# Altium footprint library Eurocard VME 3U (3.937 x 6.299 inches).PcbLib: 27 footprints (part 1 of 2)
Each footprint in its own frame and in the unit in brackets; x right, y up, seen from the top. Pads: shape width x height; smd on the part's side, far side on the other; paste and mask are expansions set on the pad; w line width, h text height; cw(c..) or ccw(c..) is an arc to the next point about the centre after c.
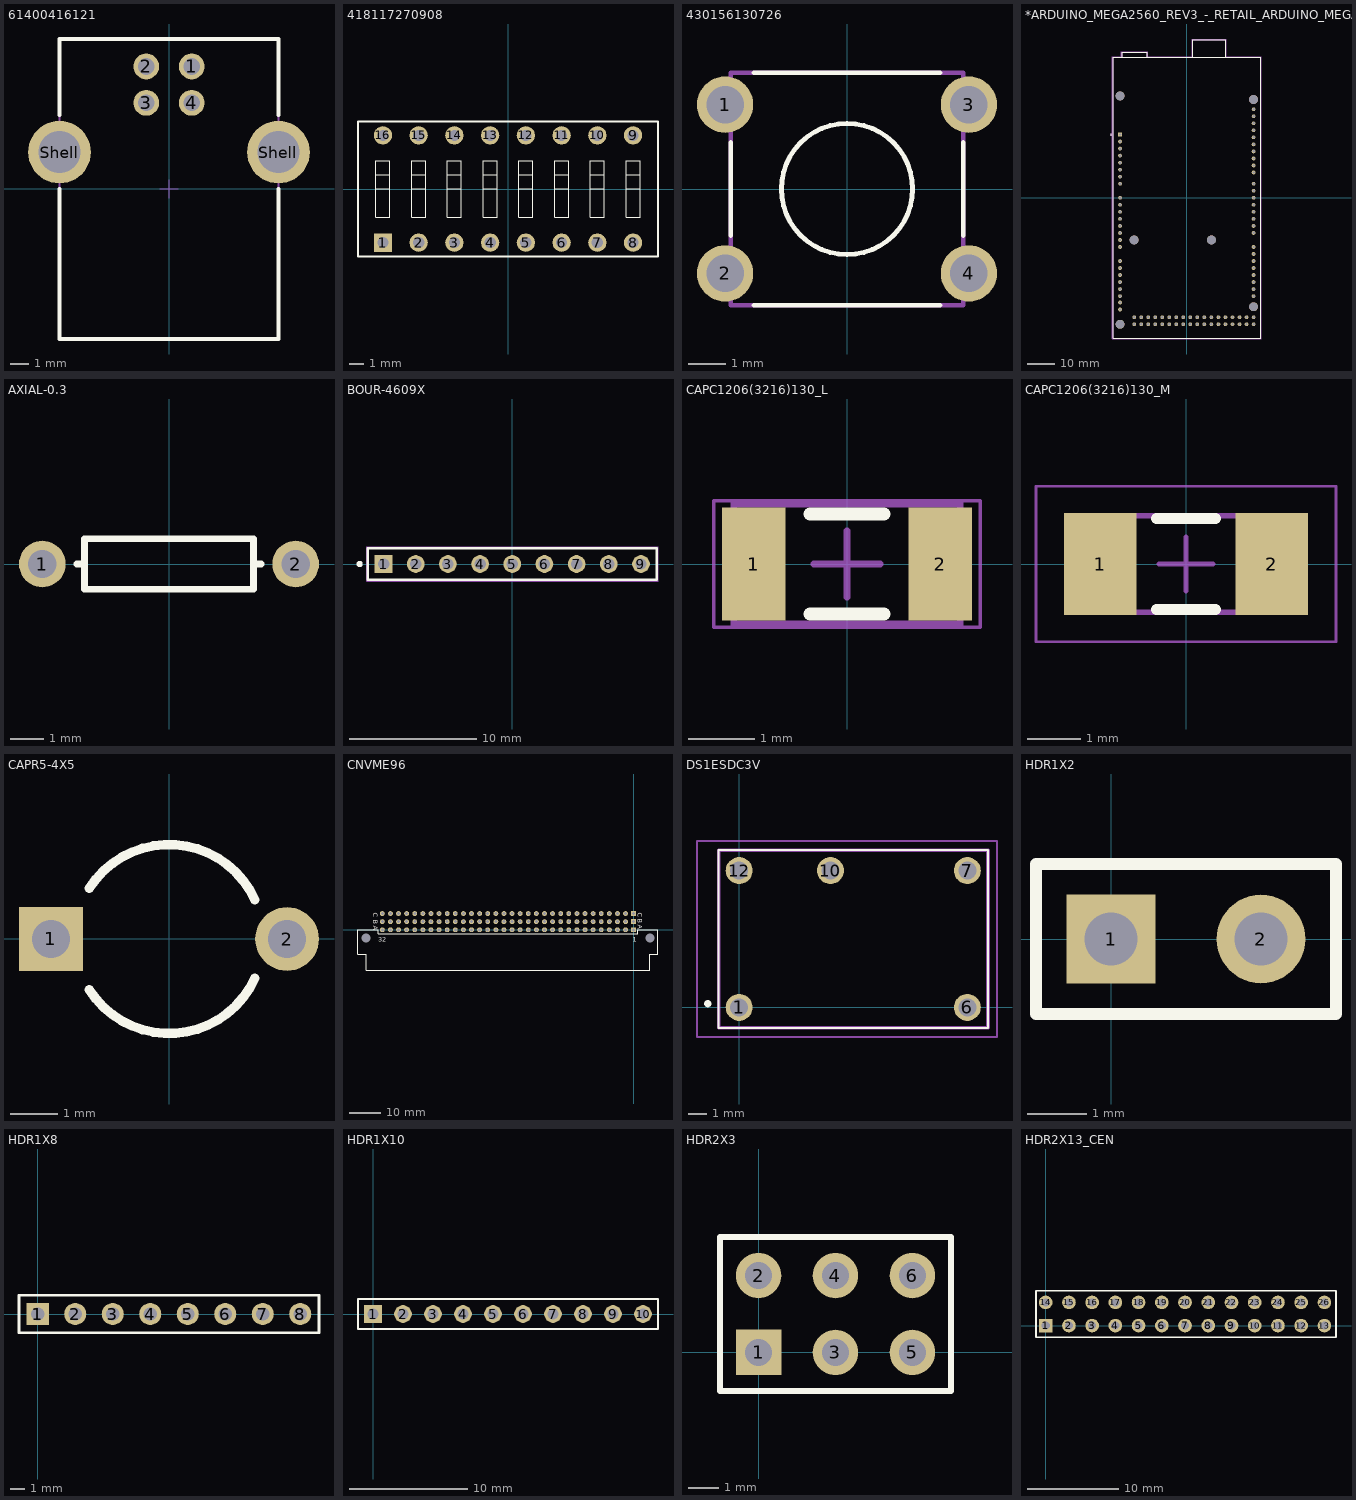
[diagram p0: the footprints below, top view; thin cyan lines are the x and y axes]

## 61400416121 [mm]
pads (6):
  round 1.42 hole 0.92: 1(1.25,6.74) 2(-1.25,6.74) 3(-1.25,4.74) 4(1.25,4.74)
  round 3.45 hole 2.3: Shell(-6.02,2.03) Shell(6.02,2.03)
Top Overlay:
  lines w0.2: -6.02,0 -6.02,-8.25 6.02,-8.25 6.02,0 ; -6.02,4.06 -6.02,8.25 6.02,8.25 6.02,4.06
Mechanical 13:
  lines w0.1: -6.02,-8.25 6.02,-8.25 6.02,8.25 -6.02,8.25 -6.02,-8.25
Mechanical 15:
  lines w0.05: -0.5,0 0.5,0 ; 0,-0.5 0,0.5
3D body "61400416121.stp": height 11.08, standoff -3.78, extent -7.484,-8.25 7.484,8.25

## 418117270908 [mm]
pads (16):
  rect 1.3x1.3 hole 0.8: 1(-8.89,-3.81)
  round 1.3 hole 0.8: 2(-6.35,-3.81) 3(-3.81,-3.81) 4(-1.27,-3.81) 5(1.27,-3.81) 6(3.81,-3.81) 7(6.35,-3.81) 8(8.89,-3.81) 9(8.89,3.81) 10(6.35,3.81) 11(3.81,3.81) 12(1.27,3.81) 13(-1.27,3.81) 14(-3.81,3.81) 15(-6.35,3.81) 16(-8.89,3.81)
Top Overlay:
  lines w0.025: -9.39,0 -8.39,0 ; -9.39,1 -8.39,1 ; -6.85,0 -5.85,0 ; -6.85,1 -5.85,1 ; -4.31,0 -3.31,0 ; -4.31,1 -3.31,1 ; -1.77,0 -0.77,0 ; -1.77,1 -0.77,1 ; 0.77,0 1.77,0 ; 0.77,1 1.77,1 ; 3.31,0 4.31,0 ; 3.31,1 4.31,1 ; 5.85,0 6.85,0 ; 5.85,1 6.85,1 ; 8.39,0 9.39,0 ; 8.39,1 9.39,1 ; -9.39,-2 -9.39,2 -8.39,2 -8.39,-2 -9.39,-2 ; -6.85,-2 -6.85,2 -5.85,2 -5.85,-2 -6.85,-2 ; -4.31,-2 -4.31,2 -3.31,2 -3.31,-2 -4.31,-2 ; -1.77,-2 -1.77,2 -0.77,2 -0.77,-2 -1.77,-2 ; 0.77,-2 0.77,2 1.77,2 1.77,-2 0.77,-2 ; 3.31,-2 3.31,2 4.31,2 4.31,-2 3.31,-2 ; 5.85,-2 5.85,2 6.85,2 6.85,-2 5.85,-2 ; 8.39,-2 8.39,2 9.39,2 9.39,-2 8.39,-2
  lines w0.127: -10.66,-4.8 10.66,-4.8 ; -10.66,-4.8 -10.66,4.8 ; -10.66,-4.8 10.66,-4.8 ; -10.66,-4.8 -10.66,4.8 ; -10.66,4.8 10.66,4.8 ; -10.66,4.8 10.66,4.8 ; 10.66,-4.8 10.66,4.8 ; 10.66,-4.8 10.66,4.8
3D body "418117270908.stp": height 6.5, standoff -3.8, extent -10.66,-4.8 10.66,4.8

## 430156130726 [mm]
pads (4):
  round 1.5 hole 1: 1(-3.25,2.25) 2(-3.25,-2.25) 3(3.25,2.25) 4(3.25,-2.25)
Top Overlay:
  circle w0.127: c0,0 r1.75
  lines w0.127: -3.1,-1.24 -3.1,1.24 ; -2.48,-3.1 2.48,-3.1 ; -2.48,3.1 2.48,3.1 ; 3.1,-1.24 3.1,1.24
Mechanical 13:
  lines w0.127: -3.1,-3.1 3.1,-3.1 3.1,3.1 -3.1,3.1 -3.1,-3.1
3D body "4301x61307x6.stp": height 13.01, standoff -3.49, extent -3.947,-3.1 3.947,3.1

## *ARDUINO_MEGA2560_REV3_-_RETAIL_ARDUINO_MEGA2560_REV3_-_RETAIL(Primary) [mm]
pads (92):
  round 1.358 hole 0.85: 0(24.13,-12.7) 1(24.13,-10.16) 2(24.13,-7.62) 3(24.13,-5.08) 3V3(-24.13,15.24) 4(24.13,-2.54) 5(24.13,0) 5V_1(-24.13,12.7) 5V_2(24.13,-43.18) 5V_3(24.13,-45.72) 6(24.13,2.54) 7(24.13,5.08) 8(24.13,9.144) 9(24.13,11.684) 10(24.13,14.224) 11(24.13,16.764) 12(24.13,19.304) 13(24.13,21.844) 14(24.13,-17.78) 15(24.13,-20.32) 16(24.13,-22.86) 17(24.13,-25.4) 18(24.13,-27.94) 19(24.13,-30.48) 20(24.13,-33.02) 21(24.13,-35.56) 22(21.59,-43.18) 23(21.59,-45.72) 24(19.05,-43.18) 25(19.05,-45.72) 26(16.51,-43.18) 27(16.51,-45.72) 28(13.97,-43.18) 29(13.97,-45.72) 30(11.43,-43.18) 31(11.43,-45.72) 32(8.89,-43.18) 33(8.89,-45.72) 34(6.35,-43.18) 35(6.35,-45.72) 36(3.81,-43.18) 37(3.81,-45.72) 38(1.27,-43.18) 39(1.27,-45.72) 40(-1.27,-43.18) 41(-1.27,-45.72) 42(-3.81,-43.18) 43(-3.81,-45.72) 44(-6.35,-43.18) 45(-6.35,-45.72) 46(-8.89,-43.18) 47(-8.89,-45.72) 48(-11.43,-43.18) 49(-11.43,-45.72) 50(-13.97,-43.18) 51(-13.97,-45.72) 52(-16.51,-43.18) 53(-16.51,-45.72) AD0(-24.13,0) AD1(-24.13,-2.54) AD2(-24.13,-5.08) AD3(-24.13,-7.62) AD4(-24.13,-10.16) AD5(-24.13,-12.7) AD6(-24.13,-15.24) AD7(-24.13,-17.78) AD8(-24.13,-22.86) AD9(-24.13,-25.4) AD10(-24.13,-27.94) AD11(-24.13,-30.48) AD12(-24.13,-33.02) AD13(-24.13,-35.56) AD14(-24.13,-37.846) AD15(-24.13,-40.386) AREF(24.13,26.924) GND1(-24.13,10.16) GND2(-24.13,7.62) GND3(24.13,24.384) GND4(-19.05,-43.18) GND5(-19.05,-45.72) IOREF(-24.13,20.32) RESET(-24.13,17.78) SCL(24.13,32.004) SDA(24.13,29.464) VIN(-24.13,5.08)
  rect 1.358x1.358 hole 0.85: NC(-24.13,22.86)
  round 3.2 hole 3.2 unplated: None(-24.13,-45.72) None(-24.13,36.83) None(-19.05,-15.24) None(8.89,-15.24) None(24.13,-39.37) None(24.13,35.56)
Top Overlay:
  circle w0.24: c-27.4,22.81 r0.12
  lines w0.127: -23.37,50.8 -23.37,52.61 -14.378,52.61 -14.378,50.8 ; -23.37,50.8 -14.378,50.8 ; -23.37,50.8 -26.67,50.8 -26.67,-50.8 26.67,-50.8 26.67,50.8 14.02,50.8 ; -14.378,50.8 2.22,50.8 ; 2.22,50.8 2.22,57.15 14.02,57.15 14.02,50.8 ; 2.22,50.8 14.02,50.8
Mechanical 4:
  circle w0.24: c-27.4,22.81 r0.12
  circle w0.24: c-27.4,22.81 r0.12
  lines w0.127: -26.67,-50.8 -26.67,50.8 ; -26.67,-50.8 26.67,-50.8 ; -26.67,-50.8 -26.67,50.8 ; -26.67,-50.8 26.67,-50.8 ; -26.67,50.8 -23.37,50.8 ; -26.67,50.8 -23.37,50.8 ; -23.37,50.8 -23.37,52.61 ; -23.37,50.8 -14.378,50.8 ; -23.37,50.8 -23.37,52.61 ; -23.37,50.8 -14.378,50.8 ; -23.37,52.61 -14.378,52.61 ; -23.37,52.61 -14.378,52.61 ; -14.378,50.8 -14.378,52.61 ; -14.378,50.8 2.22,50.8 ; -14.378,50.8 -14.378,52.61 ; -14.378,50.8 2.22,50.8 ; 2.22,50.8 2.22,57.15 ; 2.22,50.8 14.02,50.8 ; 2.22,50.8 2.22,57.15 ; 2.22,50.8 14.02,50.8 ; 2.22,57.15 14.02,57.15 ; 2.22,57.15 14.02,57.15 ; 14.02,50.8 14.02,57.15 ; 14.02,50.8 26.67,50.8 ; 14.02,50.8 14.02,57.15 ; 14.02,50.8 26.67,50.8 ; 26.67,-50.8 26.67,50.8 ; 26.67,-50.8 26.67,50.8
Mechanical 16:
  lines w0.05: -26.92,-51.05 -26.92,51.05 -23.62,51.05 -23.62,52.86 -14.128,52.86 -14.128,51.05 1.97,51.05 1.97,57.4 14.27,57.4 14.27,51.05 26.92,51.05 26.92,-51.05 -26.92,-51.05

## AXIAL-0.3 [mm]
pads (2):
  round 1.4 hole 0.85: 1(-3.81,0) 2(3.81,0)
Top Overlay:
  lines w0.2: -2.769,0 -2.54,0 ; 2.769,0 2.54,0 ; 2.54,0 2.54,0.762 -2.54,0.762 -2.54,-0.762 2.54,-0.762 2.54,0

## BOUR-4609X [mm]
pads (9):
  rect 1.4x1.4 hole 0.9: 1(-10.16,0)
  round 1.4 hole 0.9: 2(-7.62,0) 3(-5.08,0) 4(-2.54,0) 5(0,0) 6(2.54,0) 7(5.08,0) 8(7.62,0) 9(10.16,0)
Top Overlay:
  circle w0.25: c-12.055,0 r0.125
  lines w0.2: -11.405,-1.245 11.405,-1.245 11.405,1.245 -11.405,1.245 -11.405,-1.245
Mechanical 13:
  lines w0.1: -11.405,-1.245 11.405,-1.245 11.405,1.245 -11.405,1.245 -11.405,-1.245
Mechanical 15:
  lines w0.05: -11.505,-1.345 -11.505,1.345 11.505,1.345 11.505,-1.345 -11.505,-1.345
  lines w0.1: -0.5,0 0.5,0 ; 0,-0.5 0,0.5
3D body "4609x.stp": height 5.08, standoff -3.3, extent -11.38,-1.242 11.43,1.242

## CAPC1206(3216)130_L [mm]
pads (2):
  rect 0.95x1.7 smd: 1(-1.4,0) 2(1.4,0)
Top Overlay:
  lines w0.2: -0.55,-0.75 0.55,-0.75 ; -0.55,0.75 0.55,0.75
Mechanical 13:
  lines w0.1: -1.7,-0.9 -1.7,0.9 1.7,0.9 1.7,-0.9 -1.7,-0.9
Mechanical 15:
  lines w0.05: -2,-0.95 -2,0.95 2,0.95 2,-0.95 -2,-0.95
  lines w0.1: -0.5,0 0.5,0 ; 0,-0.5 0,0.5
3D body: height 1.3, standoff 0, extent -1.2,-0.9 1.2,0.9
3D body: height 1.3, standoff 0, extent -1.7,-0.9 -1.2,0.9
3D body: height 1.3, standoff 0, extent 1.2,-0.9 1.7,0.9

## CAPC1206(3216)130_M [mm]
pads (2):
  rect 1.35x1.9 smd: 1(-1.6,0) 2(1.6,0)
Top Overlay:
  lines w0.2: -0.55,-0.85 0.55,-0.85 ; -0.55,0.85 0.55,0.85
Mechanical 13:
  lines w0.1: -1.7,-0.9 -1.7,0.9 1.7,0.9 1.7,-0.9 -1.7,-0.9
Mechanical 15:
  lines w0.05: -2.8,-1.45 -2.8,1.45 2.8,1.45 2.8,-1.45 -2.8,-1.45
  lines w0.1: -0.5,0 0.5,0 ; 0,-0.5 0,0.5
3D body: height 1.3, standoff 0, extent -1.2,-0.9 1.2,0.9
3D body: height 1.3, standoff 0, extent -1.7,-0.9 -1.2,0.9
3D body: height 1.3, standoff 0, extent 1.2,-0.9 1.7,0.9

## CAPR5-4X5 [mm]
pads (2):
  rect 1.35x1.35 hole 0.8: 1(-2.5,0)
  round 1.35 hole 0.8: 2(2.5,0)
Top Overlay:
  lines w0.2: -1.687,-1.075 ccw(c0,0) 1.819,-0.832 ; -1.687,1.075 cw(c0,0) 1.819,0.832

## CNVME96 [mil]
pads (98):
  round 50 hole 110: 97(200,-100) 98(-3300,-100)
  rect 60x60 / inner round 60 / far side rect 60x60 hole 37: A1(0,0) B1(0,100) C1(0,200)
  round 60 hole 37: A2(-100,0) A3(-200,0) A4(-300,0) A5(-400,0) A6(-500,0) A7(-600,0) A8(-700,0) A9(-800,0) A10(-900,0) A11(-1000,0) A12(-1100,0) A13(-1200,0) A14(-1300,0) A15(-1400,0) A16(-1500,0) A17(-1600,0) A18(-1700,0) A19(-1800,0) A20(-1900,0) A21(-2000,0) A22(-2100,0) A23(-2200,0) A24(-2300,0) A25(-2400,0) A26(-2500,0) A27(-2600,0) A28(-2700,0) A29(-2800,0) A30(-2900,0) A31(-3000,0) A32(-3100,0) B2(-100,100) B3(-200,100) B4(-300,100) B5(-400,100) B6(-500,100) B7(-600,100) B8(-700,100) B9(-800,100) B10(-900,100) B11(-1000,100) B12(-1100,100) B13(-1200,100) B14(-1300,100) B15(-1400,100) B16(-1500,100) B17(-1600,100) B18(-1700,100) B19(-1800,100) B20(-1900,100) B21(-2000,100) B22(-2100,100) B23(-2200,100) B24(-2300,100) B25(-2400,100) B26(-2500,100) B27(-2600,100) B28(-2700,100) B29(-2800,100) B30(-2900,100) B31(-3000,100) B32(-3100,100) C2(-100,200) C3(-200,200) C4(-300,200) C5(-400,200) C6(-500,200) C7(-600,200) C8(-700,200) C9(-800,200) C10(-900,200) C11(-1000,200) C12(-1100,200) C13(-1200,200) C14(-1300,200) C15(-1400,200) C16(-1500,200) C17(-1600,200) C18(-1700,200) C19(-1800,200) C20(-1900,200) C21(-2000,200) C22(-2100,200) C23(-2200,200) C24(-2300,200) C25(-2400,200) C26(-2500,200) C27(-2600,200) C28(-2700,200) C29(-2800,200) C30(-2900,200) C31(-3000,200) C32(-3100,200)
Top Overlay:
  lines w10: -3400,-300 -3400,0 -3150,0 -3150,-50 50,-50 50,0 300,0 300,-300 200,-300 200,-500 -3300,-500 -3300,-300 -3400,-300
  text "1" at -12.5,-150 h60
  text "32" at -3150,-150 h60
  text "A" at -3212.5,50 h60
  text "B" at -3212.5,125 h60
  text "C" at -3212.5,212.5 h60
  text "A" at 50,62.5 h60
  text "B" at 50,137.5 h60
  text "C" at 50,212.5 h60

## DS1ESDC3V [mm]
pads (5):
  round 1.5 hole 1: 1(0,0) 6(12.7,0) 7(12.7,7.62) 10(5.08,7.62) 12(0,7.62)
Top Overlay:
  lines w0.1: -1.15,-1.14 13.85,-1.14 13.85,8.76 -1.15,8.76 -1.15,-1.14
  lines w0.2: -1.75,0.11 ccw(c-1.75,0.21) -1.75,0.31 ccw(c-1.75,0.21) -1.75,0.11
Mechanical 15:
  lines w0.2: -1.15,-1.14 13.85,-1.14 13.85,8.76 -1.15,8.76 -1.15,-1.14
Mechanical 20:
  lines w0.1: -2.35,-1.64 14.35,-1.64 14.35,9.26 -2.35,9.26 -2.35,-1.64

## HDR1X2 [mm]
pads (2):
  rect 1.5x1.5 hole 0.9: 1(0,0)
  round 1.5 hole 0.9: 2(2.54,0)
Top Overlay:
  lines w0.2: -1.27,-1.27 3.81,-1.27 3.81,1.27 -1.27,1.27 -1.27,-1.27

## HDR1X8 [mm]
pads (8):
  rect 1.5x1.5 hole 0.9: 1(0,0)
  round 1.5 hole 0.9: 2(2.54,0) 3(5.08,0) 4(7.62,0) 5(10.16,0) 6(12.7,0) 7(15.24,0) 8(17.78,0)
Top Overlay:
  lines w0.2: -1.27,-1.27 19.05,-1.27 19.05,1.27 -1.27,1.27 -1.27,-1.27

## HDR1X10 [mm]
pads (10):
  rect 1.5x1.5 hole 0.9: 1(0,0)
  round 1.5 hole 0.9: 2(2.54,0) 3(5.08,0) 4(7.62,0) 5(10.16,0) 6(12.7,0) 7(15.24,0) 8(17.78,0) 9(20.32,0) 10(22.86,0)
Top Overlay:
  lines w0.2: -1.27,-1.27 -1.27,1.27 0.635,1.27 24.13,1.27 24.13,-1.27 -1.27,-1.27

## HDR2X3 [mm]
pads (6):
  rect 1.5x1.5 hole 0.9: 1(0,0)
  round 1.5 hole 0.9: 2(0,2.54) 3(2.54,0) 4(2.54,2.54) 5(5.08,0) 6(5.08,2.54)
Top Overlay:
  lines w0.2: 1.482,-1.27 6.35,-1.27 ; 6.35,-1.27 6.35,3.81 -1.27,3.81 -1.27,-1.27 6.35,-1.27

## HDR2X13_CEN [mm]
pads (26):
  rect 1.5x1.5 hole 0.9: 1(0,0)
  round 1.5 hole 0.9: 2(2.54,0) 3(5.08,0) 4(7.62,0) 5(10.16,0) 6(12.7,0) 7(15.24,0) 8(17.78,0) 9(20.32,0) 10(22.86,0) 11(25.4,0) 12(27.94,0) 13(30.48,0) 14(0,2.54) 15(2.54,2.54) 16(5.08,2.54) 17(7.62,2.54) 18(10.16,2.54) 19(12.7,2.54) 20(15.24,2.54) 21(17.78,2.54) 22(20.32,2.54) 23(22.86,2.54) 24(25.4,2.54) 25(27.94,2.54) 26(30.48,2.54)
Top Overlay:
  lines w0.2: -1.058,-1.27 -1.058,3.81 31.75,3.81 31.75,-1.27 -1.058,-1.27